# EAGLE library part RFM69HW-SMD (library RFM69HW)
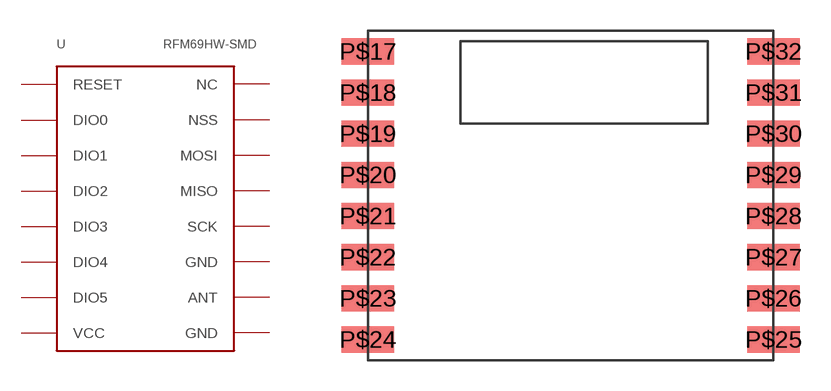
[diagram p1: symbol with the pads of RFMHW-SMD; footprint RFMHW-SMD]

Designator prefix -

## RFM69HW-SMD  [RFMHW-SMD]
P$17  RESET
P$18  DIO0
P$19  DIO1
P$20  DIO2
P$21  DIO3
P$22  DIO4
P$23  DIO5
P$24  VCC
P$25  GND
P$26  ANT
P$27  GND
P$28  SCK
P$29  MISO
P$30  MOSI
P$31  NSS
P$32  NC

## Footprint RFMHW-SMD (pad centres in mm)
RFM69HW 20dBm RF transceiver The RFM69HW is a highly integrated RF transceiver capable of operation over a wide frequency range, including the 433, 868 and 915 MHz license-free ISM (Industry Scientific and Medical) frequency bands. Its highly integrated architecture allows for a minimum of external components whilst maintaining maximum design flexibility. All major RF communication parameters are programmable and most of them can be dynamically set. The RFM69HW offers the unique advantage of programmable narrow-band and wide- band communication modes without the need to modify external components. The RFM69HW is optimized for low power consumption while offering high RF output power and channelized operation. TrueRF technology enables a low- cost external component count (elimination of the SAW filter) whilst still satisfying ETSI and FCC regulations.
smd 2.54 x 1.27: P$17 0,15; P$18 0,13; P$19 0,11; P$20 0,9; P$21 0,7; P$22 0,5; P$23 0,3; P$24 0,1; P$25 19.7,1; P$26 19.7,3; P$27 19.7,5; P$28 19.7,7; P$29 19.7,9; P$30 19.7,11; P$31 19.7,13; P$32 19.7,15